# Altium footprint library MLACHL_L.PCBLIB: 254 footprints (part 16 of 16)
Each footprint in its own frame and in the unit in brackets; x right, y up, seen from the top. Pads: shape width x height; smd on the part's side, far side on the other; paste and mask are expansions set on the pad; w line width, h text height; cw(c..) or ccw(c..) is an arc to the next point about the centre after c.
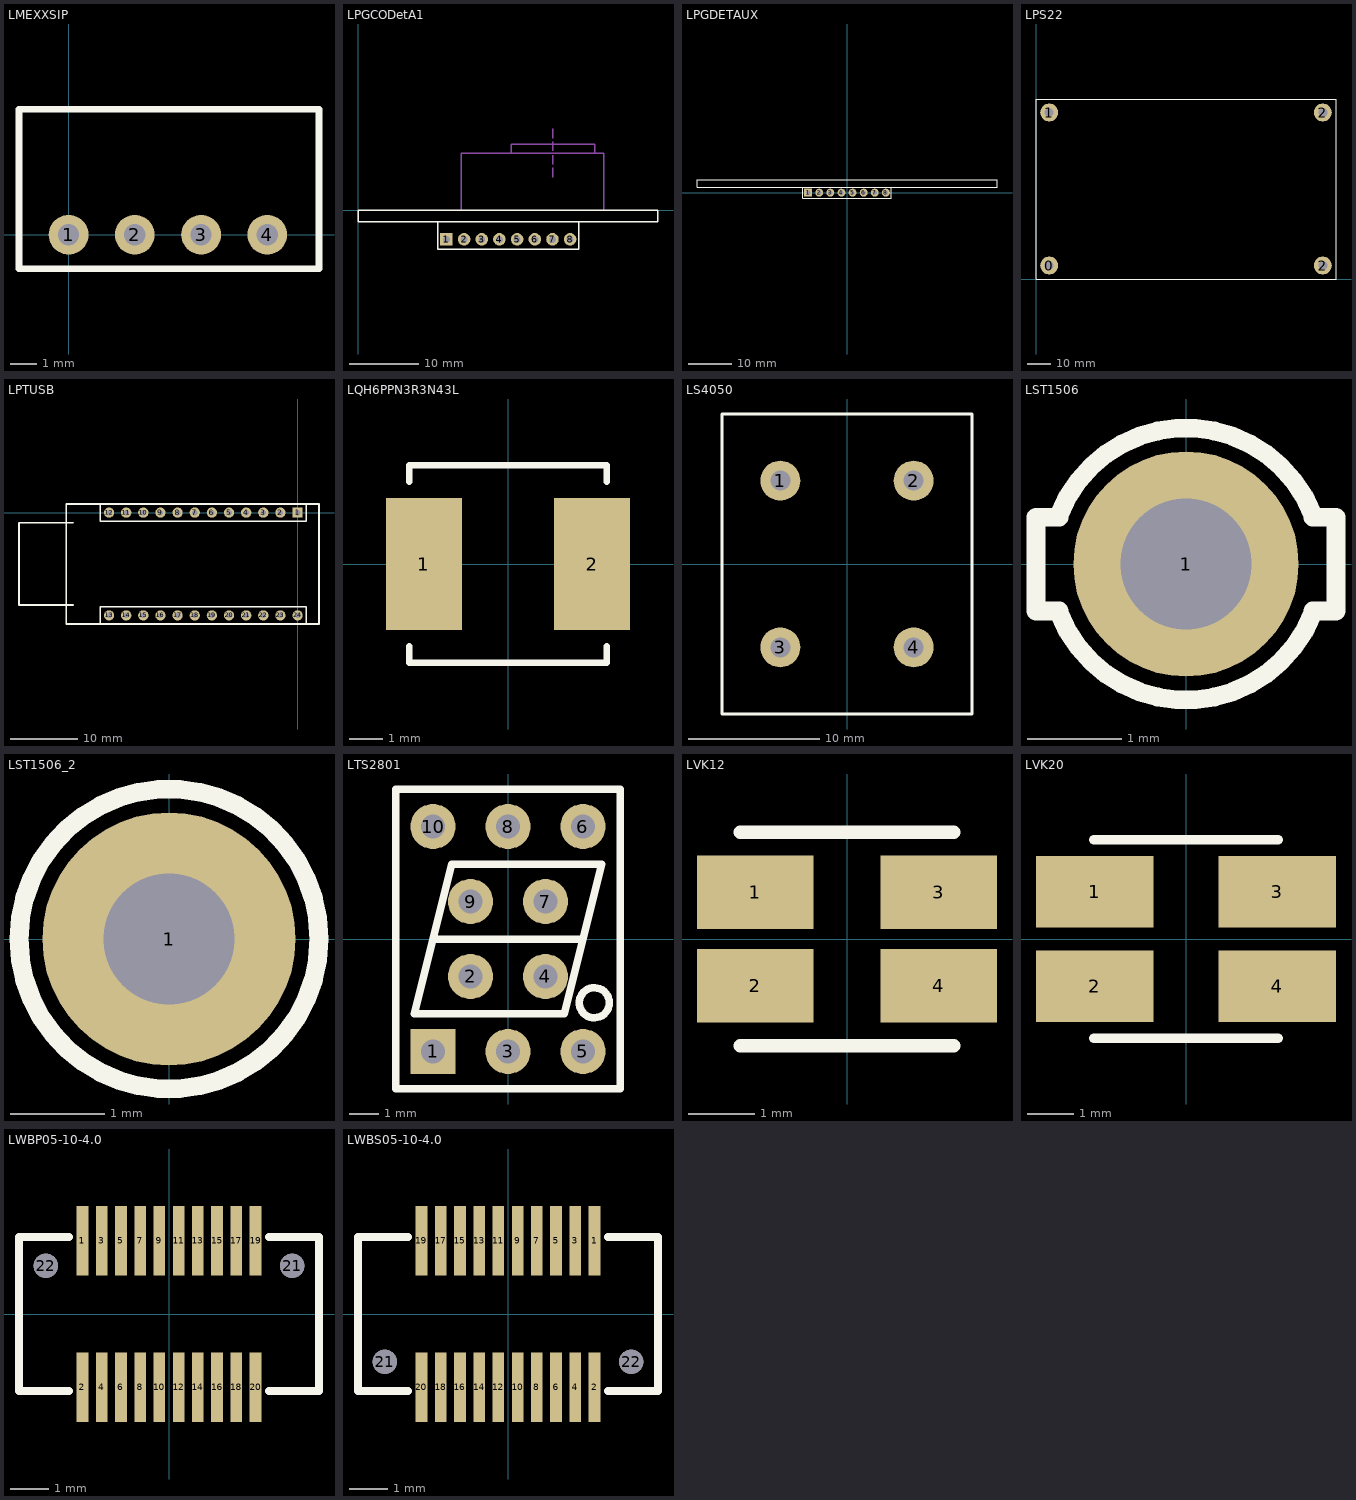
[diagram p15: the footprints below, top view; thin cyan lines are the x and y axes]

## LMEXXSIP [mil]
pads (4):
  round 60 hole 32: 1(0,0) 2(100,0) 3(200,0) 4(300,0)
TopOverlay:
  lines w10: -74.8,-51.18 377.95,-51.18 377.95,188.98 -74.8,188.98 -74.8,-51.18

## LPGCODetA1 [mm]
pads (8):
  rect 1.8x1.8 hole 1: 1(12.7,-4.145)
  round 1.8 hole 1: 2(15.24,-4.145) 3(17.78,-4.145) 4(20.32,-4.145) 5(22.86,-4.145) 6(25.4,-4.145) 7(27.94,-4.145) 8(30.48,-4.145)
TopOverlay:
  lines w0.2: 11.43,-1.645 11.43,-5.545 31.75,-5.545 31.75,-1.645 ; 0,-1.645 0,0 43.1,0 43.1,-1.645 0,-1.645
Mechanical2:
  lines w0.2: 14.8,0 14.8,8.2 35.3,8.2 35.3,0 ; 22.012,8.2 22.012,9.5 34.012,9.5 34.012,8.2 ; 28.012,4.8 28.012,6.15 ; 28.012,6.6 28.012,7.95 ; 28.012,8.55 28.012,9.9 ; 28.012,10.35 28.012,11.7
3D body: height 8.54, standoff -3, extent 30.16,-4.464 30.8,-3.824
3D body: height 8.54, standoff -3, extent 27.62,-4.464 28.26,-3.824
3D body: height 8.54, standoff -3, extent 25.08,-4.464 25.72,-3.824
3D body: height 2.54, standoff 0, extent 11.43,-5.414 31.75,-2.874
3D body: height 8.54, standoff -3, extent 12.38,-4.464 13.02,-3.824
3D body: height 8.54, standoff -3, extent 14.92,-4.464 15.56,-3.824
3D body: height 8.54, standoff -3, extent 17.46,-4.464 18.1,-3.824
3D body: height 8.54, standoff -3, extent 20,-4.464 20.64,-3.824
3D body: height 8.54, standoff -3, extent 22.54,-4.464 23.18,-3.824

## LPGDETAUX [mm]
pads (8):
  rect 1.8x1.8 hole 1: 1(-8.89,0)
  round 1.8 hole 1: 2(-6.35,0) 3(-3.81,0) 4(-1.27,0) 5(1.27,0) 6(3.81,0) 7(6.35,0) 8(8.89,0)
TopOverlay:
  lines w0.2: -10.16,1.25 -10.16,-1.25 10.16,-1.25 10.16,1.25 ; -34.3,1.25 -34.3,2.895 34.3,2.895 34.3,1.25 -34.3,1.25
3D body: height 8.54, standoff -3, extent 0.95,-0.32 1.59,0.32
3D body: height 8.54, standoff -3, extent -1.59,-0.32 -0.95,0.32
3D body: height 8.54, standoff -3, extent -4.13,-0.32 -3.49,0.32
3D body: height 8.54, standoff -3, extent -6.67,-0.32 -6.03,0.32
3D body: height 8.54, standoff -3, extent -9.21,-0.32 -8.57,0.32
3D body: height 2.54, standoff 0, extent -10.16,-1.27 10.16,1.27
3D body: height 8.54, standoff -3, extent 3.49,-0.32 4.13,0.32
3D body: height 8.54, standoff -3, extent 6.03,-0.32 6.67,0.32
3D body: height 8.54, standoff -3, extent 8.57,-0.32 9.21,0.32
3D body: height 30, standoff 0, extent -34.3,1.25 34.3,2.895

## LPS22 [mil]
pads (4):
  round 300 hole 150: 0(220,225) 1(220,2775) 2(4780,225) 2(4780,2775)
TopOverlay:
  lines w10: 0,0 0,3000 5000,3000 5000,0 0,0

## LPTUSB [mil]
pads (24):
  rect 60x60 hole 32: 1(0,0)
  round 60 hole 32: 2(-100,0) 3(-200,0) 4(-300,0) 5(-400,0) 6(-500,0) 7(-600,0) 8(-700,0) 9(-800,0) 10(-900,0) 11(-1000,0) 12(-1100,0) 13(-1100,-600) 14(-1000,-600) 15(-900,-600) 16(-800,-600) 17(-700,-600) 18(-600,-600) 19(-500,-600) 20(-400,-600) 21(-300,-600) 22(-200,-600) 23(-100,-600) 24(0,-600)
TopOverlay:
  lines w8: -1150,-650 -1150,-550 50,-550 50,-650 -1150,-650 ; -1150,-50 -1150,50 50,50 50,-50 -1150,-50
  lines w10: -1310.83,-539.37 -1625.39,-539.37 -1625.39,-59.05 -1310.83,-59.05 ; -1350,-650 125,-650 125,50 -1350,50 -1350,-650

## LQH6PPN3R3N43L [mm]
pads (2):
  rect 2.3x4 smd: 1(-2.55,0) 2(2.55,0)
TopOverlay:
  lines w0.2: -3,-2.5 -3,-3 3,-3 3,-2.5 ; -3,2.5 -3,3 3,3 3,2.5
3D body: height 4.3, standoff 0, extent -3,-3 3,3

## LS4050 [mil]
pads (4):
  round 120 hole 60: 1(-200,250) 2(200,250) 3(-200,-250) 4(200,-250)
TopOverlay:
  lines w10: -375,-450 -375,450 375,450 375,-450 -375,-450

## LST1506 [mm]
pads (1):
  round 2.4 hole 1.4: 1(0,0)
TopOverlay:
  lines w0.2: -1.35,-0.5 -1.599,-0.5 -1.599,0.499 -1.35,0.499 ; -1.344,-0.543 ccw(c0,0) 1.344,-0.543 ; -1.344,0.543 cw(c0,0) 1.344,0.543 ; 1.35,-0.5 1.599,-0.5 1.599,0.499 1.35,0.499
3D body: height 6.05, standoff 5.45, extent -1.4,-0.4 1.4,0.4
3D body: height 5.45, standoff 4, extent 0.65,-0.4 1.4,0.4
3D body: height 5.45, standoff 4, extent -1.4,-0.4 -0.65,0.4
3D body: height 4.15, standoff 0, extent -1.4,-0.4 1.4,0.4
3D body: height 3.5, standoff -3.5, extent -0.65,-0.4 0.65,0.4
3D body: height 7, standoff 6.05, extent -1.4,-0.4 -0.75,0.4
3D body: height 7, standoff 6.05, extent 0.75,-0.4 1.4,0.4

## LST1506_2 [mm]
pads (1):
  round 2.7 hole 1.4: 1(0,0)
TopOverlay:
  circle w0.2: c0,0 r1.6
3D body: height 7, standoff 6.05, extent 0.75,-0.4 1.4,0.4
3D body: height 7, standoff 6.05, extent -1.4,-0.4 -0.75,0.4
3D body: height 3.5, standoff -3.5, extent -0.65,-0.4 0.65,0.4
3D body: height 4.15, standoff 0, extent -1.4,-0.4 1.4,0.4
3D body: height 5.45, standoff 4, extent -1.4,-0.4 -0.65,0.4
3D body: height 5.45, standoff 4, extent 0.65,-0.4 1.4,0.4
3D body: height 6.05, standoff 5.45, extent -1.4,-0.4 1.4,0.4

## LTS2801 [mil]
pads (10):
  rect 60x60 hole 32: 1(-100,-150)
  round 60 hole 32: 2(-50,-50) 3(0,-150) 4(50,-50) 5(100,-150) 6(100,150) 7(50,50) 8(0,150) 9(-50,50) 10(-100,150)
TopOverlay:
  circle w10: c115,-85 r20
  lines w10: -100,0 100,0 ; -150,-200 150,-200 150,200 -150,200 -150,-200 ; -125,-100 75,-100 125,100 -75,100 -125,-100

## LVK12 [mm]
pads (4):
  rect 1.75x1.1 smd: 1(-1.375,0.7) 2(-1.375,-0.7) 3(1.375,0.7) 4(1.375,-0.7)
TopOverlay:
  lines w0.203: -1.6,-1.6 1.6,-1.6 ; -1.6,1.6 1.6,1.6

## LVK20 [mm]
pads (4):
  rect 2.55x1.55 smd: 1(-1.975,1.025) 2(-1.975,-1.025) 3(1.975,1.025) 4(1.975,-1.025)
TopOverlay:
  lines w0.203: -2,-2.15 2,-2.15 ; -2,2.15 2,2.15
3D body: height 0.3, standoff 0, extent -2.5,-1.25 -2.35,-0.35
3D body: height 0.3, standoff 0, extent 2.35,-1.25 2.5,-0.35
3D body: height 0.3, standoff 0, extent 2.35,0.35 2.5,1.25
3D body: height 0.3, standoff 0, extent -2.5,0.35 -2.35,1.25
3D body: height 0.5, standoff 0, extent -2.35,-1.25 2.35,1.25

## LWBP05-10-4.0 [mm]
pads (22):
  rect 0.305x1.803 smd: 1(-2.25,1.9) 2(-2.25,-1.9) 3(-1.75,1.9) 4(-1.75,-1.9) 5(-1.25,1.9) 6(-1.25,-1.9) 7(-0.75,1.9) 8(-0.75,-1.9) 9(-0.25,1.9) 10(-0.25,-1.9) 11(0.25,1.9) 12(0.25,-1.9) 13(0.75,1.9) 14(0.75,-1.9) 15(1.25,1.9) 16(1.25,-1.9) 17(1.75,1.9) 18(1.75,-1.9) 19(2.25,1.9) 20(2.25,-1.9)
  round 0.635 hole 0.635: 21(3.2,1.25) 22(-3.2,1.25)
TopOverlay:
  lines w0.203: -2.6,-2 -3.9,-2 -3.9,2 -2.6,2 ; 2.6,-2 3.9,-2 3.9,2 2.6,2

## LWBS05-10-4.0 [mil]
pads (22):
  rect 12x71 smd: 1(88.58,74.8) 2(88.58,-74.8) 3(68.9,74.8) 4(68.9,-74.8) 5(49.21,74.8) 6(49.21,-74.8) 7(29.53,74.8) 8(29.53,-74.8) 9(9.84,74.8) 10(9.84,-74.8) 11(-9.84,74.8) 12(-9.84,-74.8) 13(-29.53,74.8) 14(-29.53,-74.8) 15(-49.21,74.8) 16(-49.21,-74.8) 17(-68.9,74.8) 18(-68.9,-74.8) 19(-88.58,74.8) 20(-88.58,-74.8)
  round 25 hole 25: 21(-126,-49) 22(126,-49)
TopOverlay:
  lines w8: -102.36,-78.74 -153.54,-78.74 -153.54,78.74 -102.36,78.74 ; 102.36,-78.74 153.54,-78.74 153.54,78.74 102.36,78.74